# EAGLE library part EG2219 (library switches)
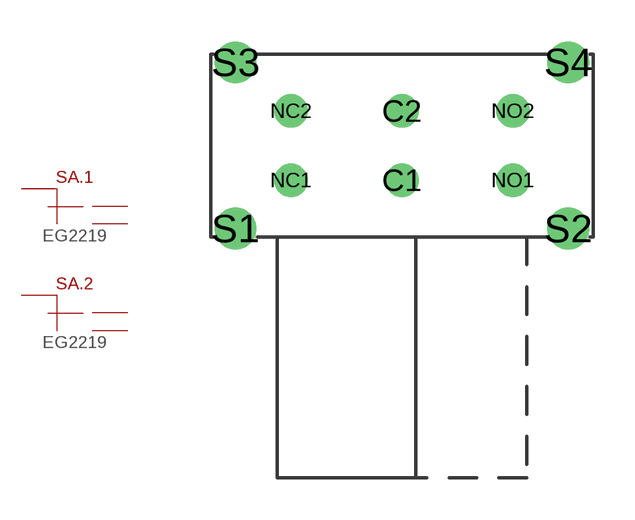
[diagram p0: symbol with the pads of ESWITCH-EG2219; footprint ESWITCH-EG2219]

Designator prefix SA; gates .1=SWITCH-2POS .2=SWITCH-2POS

## EG2219 (MOUSER: 612-EG2219)  [ESWITCH-EG2219]
C1  .1:CM  pas
C2  .2:CM  pas
NC1  .1:1  pas
NC2  .2:1  pas
NO1  .1:2  pas
NO2  .2:2  pas

## Footprint ESWITCH-EG2219 (pad centres in mm)
drill 0.7: C1 0,3.83; C2 0,6.33; NC1 -4,3.83; NC2 -4,6.33; NO1 4,3.83; NO2 4,6.33
drill 1: S1 -6,2.08; S2 6,2.08; S3 -6,8.08; S4 6,8.08